# Altium footprint library Diode.PcbLib: 24 footprints (part 1 of 2)
Each footprint in its own frame and in the unit in brackets; x right, y up, seen from the top. Pads: shape width x height; smd on the part's side, far side on the other; paste and mask are expansions set on the pad; w line width, h text height; cw(c..) or ccw(c..) is an arc to the next point about the centre after c.
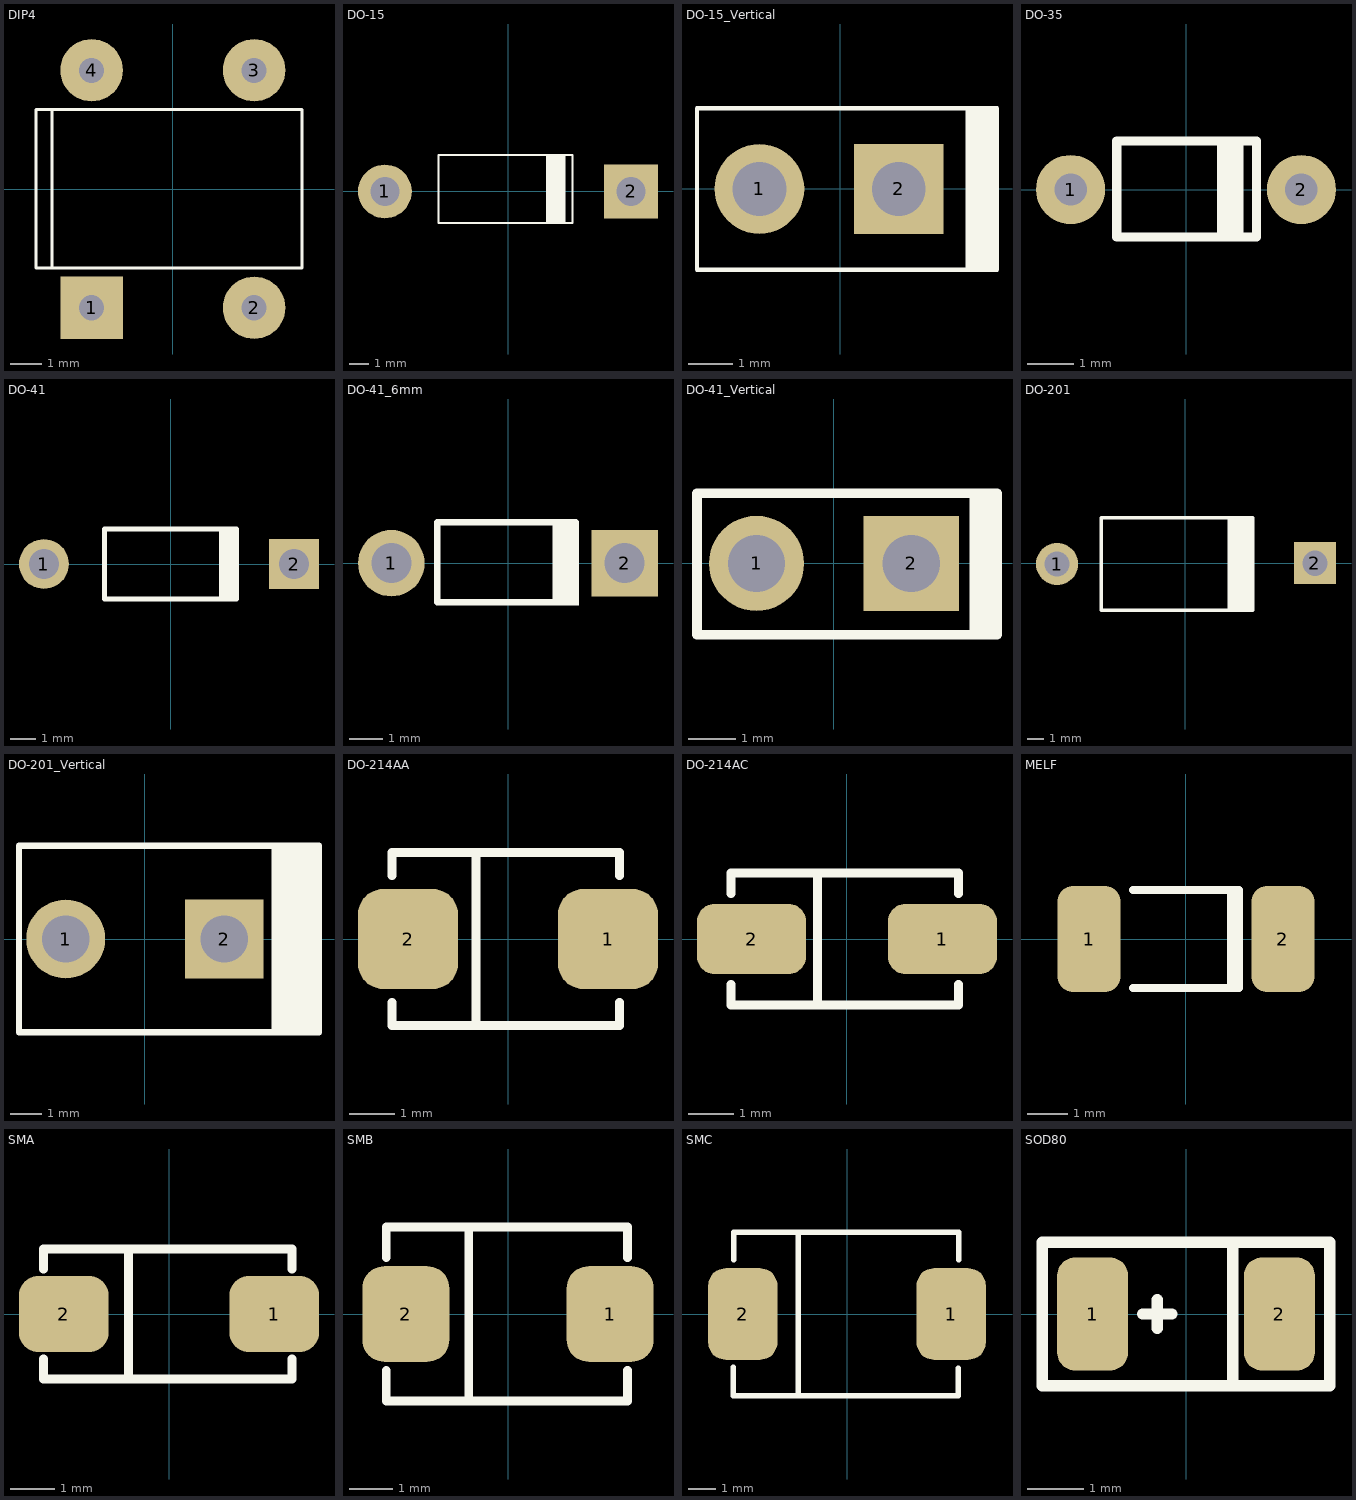
[diagram p0: the footprints below, top view; thin cyan lines are the x and y axes]

## DIP4 [mm] "6-Pin Plastic Dual In-Line Package (PDIP) Row Spacing 9 mm; Pitch 2.54 mm"
height 6.6
pads (4):
  rect 2x2 hole 0.8: 1(-2.6,-3.8)
  round 2 hole 0.8: 2(2.6,-3.8) 3(2.6,3.8) 4(-2.6,3.8)
Top Overlay:
  lines w0.1: -3.87,-2.53 -3.87,2.55 ; -4.378,-2.53 4.131,-2.53 4.131,2.55 -4.378,2.55 -4.378,-2.53
3D body: height 4.3, standoff -2.2, extent -3.825,-3.99 3.875,3.993

## DO-15 [mm] "Diode"
height 8.5
pads (2):
  round 2.8 hole 1.5: 1(-6.414,0.001)
  rect 2.8x2.8 hole 1.5: 2(6.414,-0.001)
Top Overlay:
  rectangle: 1.969,-1.652 2.985,1.904
  lines w0.1: -3.619,-1.652 3.366,-1.652 3.366,1.904 -3.619,1.904 -3.619,-1.652
3D body: height 3.78, standoff -3, extent -6.843,-1.779 6.717,1.781

## DO-15_Vertical [mm] "Diode"
height 8.5
pads (2):
  round 2 hole 1.2: 1(-1.8,0)
  rect 2x2 hole 1.2: 2(1.307,0)
Top Overlay:
  rectangle: 2.8,-1.801 3.5,1.799
  lines w0.1: -3.193,-1.801 3.5,-1.801 3.5,1.799 -3.193,1.799 -3.193,-1.801
3D body: height 11.05, standoff -4, extent -3.068,-1.801 1.682,1.755

## DO-35 [mm] "Diode"
height 1
pads (2):
  round 1.5 hole 0.7: 1(-2.5,0) 2(2.5,0)
Top Overlay:
  rectangle: 0.675,-1.075 1.25,1.1
  lines w0.2: -1.5,-1.025 -1.5,1.05 1.525,1.05 1.525,-1.025 -1.5,-1.025
3D body: height 2.25, standoff -1.85, extent -2.75,-0.75 2.75,0.75

## DO-41 [mm] "Diode, Axial; Body 5.2 x 2.7 mm (LxDia. max), Lead Dia. 0.86 mm (max)"
height 2.8
pads (2):
  round 2 hole 1.2: 1(-5.08,0)
  rect 2x2 hole 1.2: 2(4.953,0)
Top Overlay:
  rectangle: 1.95,-1.4 2.75,1.4
  lines w0.2: 2.65,-1.4 -2.65,-1.4 -2.65,1.4 2.65,1.4
3D body: height 3.35, standoff -2, extent -5.585,-1.3 5.435,1.4

## DO-41_6mm [mm] "Diode, Axial; Body 5.2 x 2.7 mm (LxDia. max), Lead Dia. 0.86 mm (max)"
height 2.8
pads (2):
  round 2 hole 1.2: 1(-3.5,0)
  rect 2x2 hole 1.2: 2(3.5,0)
Top Overlay:
  rectangle: 1.33,-1.275 2.13,1.225
  lines w0.2: 1.975,-1.175 -2.125,-1.175 -2.125,1.225 2.03,1.225

## DO-41_Vertical [mm]
height 7
pads (2):
  round 2 hole 1.2: 1(-1.625,0)
  rect 2x2 hole 1.2: 2(1.625,0)
Top Overlay:
  rectangle: 2.85,-1.5 3.425,1.475
  lines w0.2: -2.875,-1.5 3.425,-1.5 3.425,1.475 -2.875,1.475 -2.875,-1.5
3D body: height 10.64, standoff -3.5, extent -1.87,-1.362 2.465,1.362

## DO-201 [mm]
pads (2):
  round 2.5 hole 1.5: 1(-7.62,-0.05)
  rect 2.5x2.5 hole 1.5: 2(7.7,0)
Top Overlay:
  rectangle: 2.5,-2.8 4,2.7
  lines w0.2: -5,-2.8 -5,2.7 4,2.7 4,-2.8 -5,-2.8
3D body: height 7.6, standoff -4, extent -8.28,-2.85 8.28,2.75

## DO-201_Vertical [mm]
pads (2):
  round 2.5 hole 1.5: 1(-2.51,0)
  rect 2.5x2.5 hole 1.5: 2(2.51,0)
Top Overlay:
  rectangle: 4.01,-2.95 5.51,2.95
  lines w0.2: -3.99,-2.95 5.51,-2.95 5.51,2.95 -3.99,2.95 -3.99,-2.95
3D body: height 15.19, standoff -3.5, extent -3.205,-2.805 5.34,2.805

## DO-214AA [mm]
height 4
pads (2):
  rrect50% 2.2x2.2 smd: 1(2.2,0) 2(-2.2,0)
Top Overlay:
  lines w0.2: -2.55,-1.4 -2.55,-1.9 2.45,-1.9 2.45,-1.4 ; -2.55,1.4 -2.55,1.9 2.45,1.9 2.45,1.4 ; -0.7,-1.9 -0.7,1.9
3D body: height 2.15, standoff -0.05, extent -2.525,-1.3 2.475,1.4

## DO-214AC [mm]
height 4
pads (2):
  rrect50% 2.4x1.55 smd: 1(2.1,0) 2(-2.1,0)
Top Overlay:
  lines w0.2: -2.55,-1 -2.55,-1.45 2.45,-1.45 2.45,-1 ; -2.55,1 -2.55,1.45 2.45,1.45 2.45,1 ; -0.65,-1.45 -0.65,1.45
3D body: height 2.15, standoff -0.05, extent -2.525,-1.375 2.475,1.325

## MELF [mm] "Metal Electrode Face (MELF) Diode; Body 5 x 2.5 mm (LxDia)"
height 2.5
pads (2):
  rrect50% 1.55x2.6 smd: 1(-2.375,0) 2(2.375,0)
Top Overlay:
  lines w0.2: -1.3,-1.2 1.3,-1.2 1.3,1.2 -1.3,1.2 ; 1.11,-1.2 1.11,1.2
3D body: height 2.64, standoff -0.04, extent -2.6,-1.3 2.6,1.37

## SMA [mm]
height 2.5
pads (2):
  rrect50% 2x1.7 smd: 1(2.35,0) 2(-2.35,0)
Top Overlay:
  lines w0.2: -2.8,-1 -2.8,-1.45 2.75,-1.45 2.75,-1 ; -2.8,1 -2.8,1.45 2.75,1.45 2.75,1 ; -0.9,-1.45 -0.9,1.45
3D body: height 2.7, standoff 0, extent -2.85,-1.475 2.75,1.475

## SMB [mm]
height 2.5
pads (2):
  rrect50% 2x2.2 smd: 1(2.35,0) 2(-2.35,0)
Top Overlay:
  lines w0.2: -2.8,-1.3 -2.8,-2 2.75,-2 2.75,-1.3 ; -2.8,1.3 -2.8,2 2.75,2 2.75,1.3 ; -0.9,-2 -0.9,2
3D body: height 2.65, standoff 0, extent -2.794,-1.975 2.794,1.975

## SMC [mm]
height 2.5
pads (2):
  rrect50% 2.5x3.3 smd: 1(3.75,0) 2(-3.75,0)
Top Overlay:
  lines w0.2: -4.1,-1.925 -4.1,-2.95 4,-2.95 4,-1.95 ; -4.075,1.95 -4.075,2.95 4.025,2.95 4.025,1.95 ; -1.75,-2.95 -1.75,2.95
3D body: height 2.4, standoff 0.03, extent -4.065,-3.05 4.065,3.05

## SOD80 [mm]
height 1
pads (2):
  rrect50% 1.25x2 smd: 1(-1.651,0) 2(1.651,0)
Top Overlay:
  lines w0.2: -0.762,0 -0.254,0 ; -0.508,-0.254 -0.508,0.254 ; 0.825,-1.27 0.825,1.27 ; -2.54,-1.27 2.54,-1.27 2.54,1.27 -2.54,1.27 -2.54,-1.27
3D body: height 1.61, standoff 0.01, extent -1.85,-0.8 1.85,0.8